# Altium footprint library 2PINHeader.PcbLib: 1 footprints
Each footprint in its own frame and in the unit in brackets; x right, y up, seen from the top. Pads: shape width x height; smd on the part's side, far side on the other; paste and mask are expansions set on the pad; w line width, h text height; cw(c..) or ccw(c..) is an arc to the next point about the centre after c.
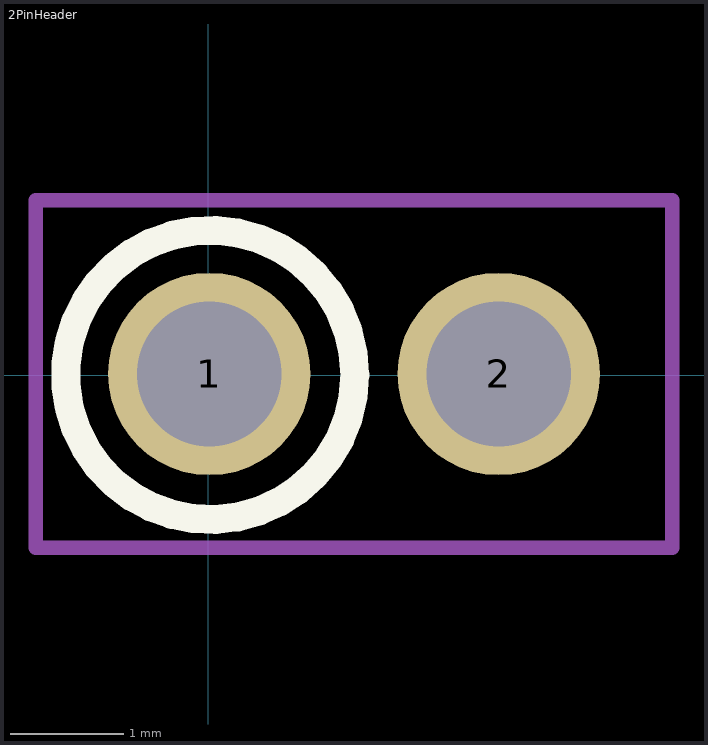
[diagram p0: the footprint, top view; thin cyan lines are the x and y axes]

## 2PinHeader [mil]
pads (2):
  round 70 hole 50: 1(0.42,0.41) 2(100.42,0.41)
Top Overlay:
  circle w10: c0.7,0.1 r50
Bottom Overlay:
  circle w10: c0.89,0.46 r50
Mechanical 15:
  lines w5: -59.58,-59.59 160.42,-59.59 160.42,60.41 -59.58,60.41 -59.58,-59.59
3D body: height 100, standoff 0, extent -49.58,-49.59 150.42,50.41
3D body: height 470, standoff -100, extent -12.08,-12.08 12.92,12.92
3D body: height 470, standoff -100, extent 87.92,-12.08 112.92,12.92